# Altium footprint library WM1351-ND.PcbLib: 1 footprints
Each footprint in its own frame and in the unit in brackets; x right, y up, seen from the top. Pads: shape width x height; smd on the part's side, far side on the other; paste and mask are expansions set on the pad; w line width, h text height; cw(c..) or ccw(c..) is an arc to the next point about the centre after c.
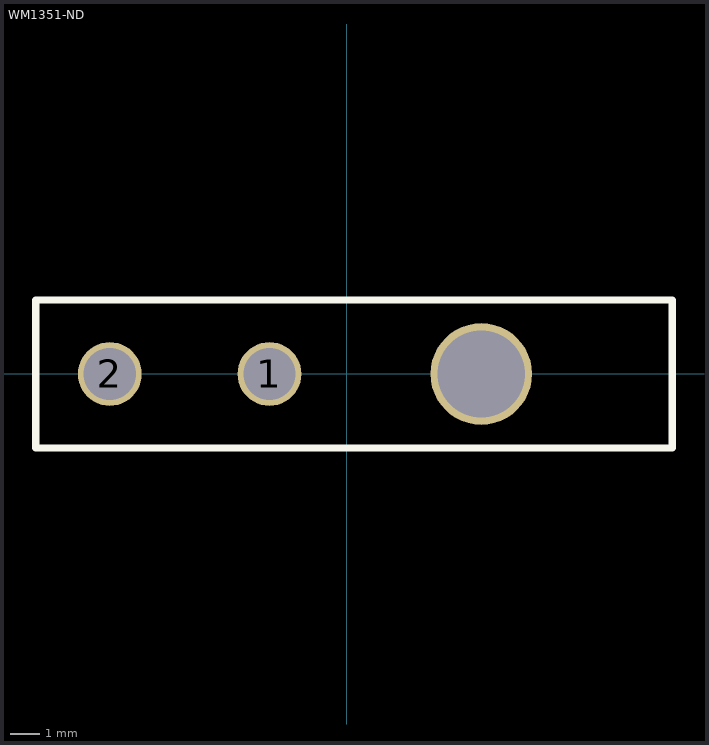
[diagram p0: the footprint, top view; thin cyan lines are the x and y axes]

## WM1351-ND [mm]
height 9.6
pads (3):
  round 2.2 hole 1.8: 1(-2.66,0) 2(-8.16,0)
  round 3.5 hole 3: ""(4.64,0)
Top Overlay:
  lines w0.254: -10.71,-2.55 -10.71,2.55 11.22,2.55 11.22,-2.55 -10.71,-2.55
3D body "039301020.stp": height 11.4, standoff -3.6, extent -8.824,-2.879 11.11,2.921